# EAGLE library part SPAN02A-05 (library InternetRadio)
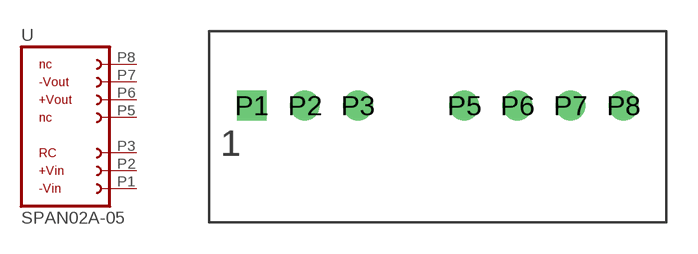
[diagram p2: symbol with the pads of SPAN02A-05; footprint SPAN02A-05]

Designator prefix -

## SPAN02A-05  [SPAN02A-05]
P1  1  pas
P2  2  pas
P3  3  pas
P5  5  pas
P6  6  pas
P7  7  pas
P8  8  pas

## Footprint SPAN02A-05 (pad centres in mm)
drill 0.914 square: P1 -8.763,1.778
drill 0.914: P2 -6.223,1.778; P3 -3.683,1.778; P5 1.397,1.778; P6 3.937,1.778; P7 6.477,1.778; P8 9.017,1.778